# Altium schematic symbol library X6511WVS-25H-C60D48R1.SCHLIB: 1 symbol
Pins are listed as number, name and electrical type; pins without a type are passive.

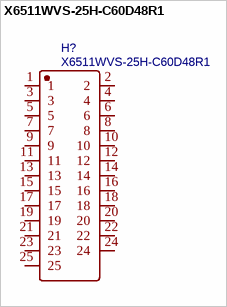
[diagram p0: symbol X6511WVS-25H-C60D48R1]

## X6511WVS-25H-C60D48R1
designator H?
BOM_Manufacturer: XKB Connectivity(中国星坤); Contributor: LCSC; BOM_Supplier: LCSC; BOM_Supplier Part: C2883821; BOM_Manufacturer Part: X6511WVS-25H-C60D48R1; link: https://atta.szlcsc.com/upload/public/pdf/source/20200909/C780060_F941EB1B69F43B5D6329EAF74E2E27BB.pdf; spicePre: H; spiceSymbolName: X6511WVS-25H-C60D48R1
footprint HDR-SMD_25P-P2.54_XKB_X6511WVS-25H-C60D48R1
pins: 1, 2, 3, 4, 5, 6, 7, 8, 9, 10, 11, 12, 13, 14, 15, 16, 17, 18, 19, 20, 21, 22, 23, 24, 25